# EAGLE library part NAR101 (library mita-akiba)
STANLEY 7SEG LED Anode Common h=32mm
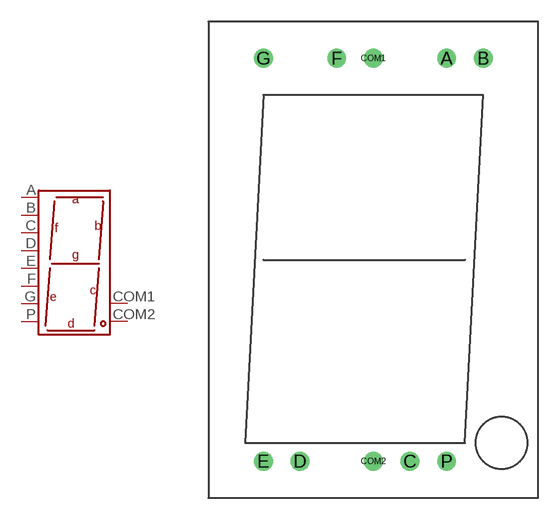
[diagram p24: symbol with the pads of 7SEG-23MM; footprint 7SEG-23MM]

Designator prefix -

## NAR101  [7SEG-23MM]
A  A  in
B  B  in
C  C  in
COM1  A1
COM2  A2
D  D  in
E  E  in
F  F  in
G  G  in
P  P  in

## Footprint 7SEG-23MM (pad centres in mm)
drill 0.8: A 5.08,13.97; B 7.62,13.97; C 2.54,-13.97; COM1 0,13.97; COM2 0,-13.97; D -5.08,-13.97; E -7.62,-13.97; F -2.54,13.97; G -7.62,13.97; P 5.08,-13.97